# Altium footprint library WatsonPcbLib.PcbLib: 2 footprints
Each footprint in its own frame and in the unit in brackets; x right, y up, seen from the top. Pads: shape width x height; smd on the part's side, far side on the other; paste and mask are expansions set on the pad; w line width, h text height; cw(c..) or ccw(c..) is an arc to the next point about the centre after c.
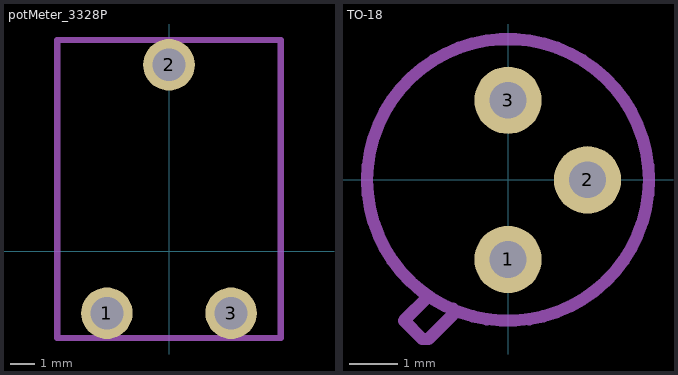
[diagram p0: the footprints below, top view; thin cyan lines are the x and y axes]

## potMeter_3328P [mil]
pads (3):
  round 83 hole 53: 1(-100,-100) 2(0,300) 3(100,-100)
Mechanical 1:
  lines w10: -180,-140 -180,340 140,340 180,340 180,-140 -140,-140 -180,-140

## TO-18 [mil]
pads (3):
  round 55 hole 30: 1(0,-65) 2(65,0) 3(0,65)
Mechanical 1:
  circle w10: c0,0 r115.11
  lines w10: -65,-95 -85,-115 -70,-130 -65,-130 -45,-110 -45,-105